# Altium schematic symbol library E20_10PIN_CUSTOM2.Schlib: 1 symbol
Pins are listed as number, name and electrical type; pins without a type are passive.

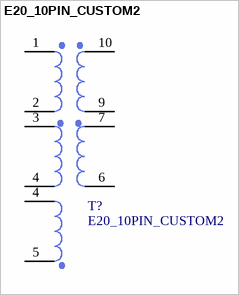
[diagram p0: symbol E20_10PIN_CUSTOM2]

## E20_10PIN_CUSTOM2
designator T?
pins: 1, 2, 3, 4, 4, 5, 6, 7, 9, 10